# Altium integrated library WE-SPC_rev16a.intlib: 53 symbols
Pins are listed as number, name and electrical type; pins without a type are passive.

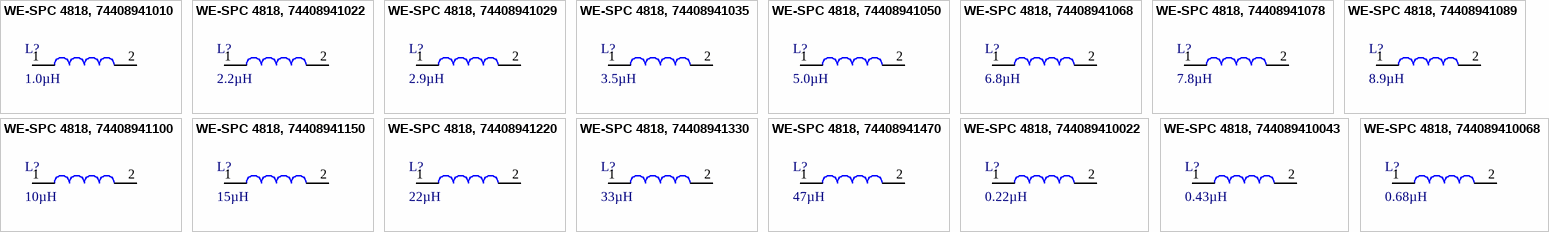
[diagram p0: symbols WE-SPC 4818, 74408941010 to WE-SPC 4818, 744089410068]

## WE-SPC 4818, 74408941010
designator L?, comment 1.0µH
WE-SPC SMD Shielded Power Inductor, L= 1.0µH; partNo: 74408941010; Manufacturer: Wurth Elektronik; Inductance: 1.0µH; ComponentLink1Description: Manufacturer; ComponentLink1URL: http://www.we-online.de; Created by: Baojun Chen; Created Date: Jan.2016; ComponentLink2Description: Datasheet; ComponentLink2URL: http://katalog.we-online.de/pbs/datasheet/74408941010.pdf
footprint WE-SPC_4818
pins: 1, 2

## WE-SPC 4818, 74408941022
designator L?, comment 2.2µH
WE-SPC SMD Shielded Power Inductor, L= 2.2µH; partNo: 74408941022; Manufacturer: Wurth Elektronik; Inductance: 2.2µH; ComponentLink1Description: Manufacturer; ComponentLink1URL: http://www.we-online.de; Created by: Baojun Chen; Created Date: Jan.2016; ComponentLink2Description: Datasheet; ComponentLink2URL: http://katalog.we-online.de/pbs/datasheet/74408941022.pdf
footprint WE-SPC_4818
pins: 1, 2

## WE-SPC 4818, 74408941029
designator L?, comment 2.9µH
WE-SPC SMD Shielded Power Inductor, L= 2.9µH; partNo: 74408941029; Manufacturer: Wurth Elektronik; Inductance: 2.9µH; ComponentLink1Description: Manufacturer; ComponentLink1URL: http://www.we-online.de; Created by: Baojun Chen; Created Date: Jan.2016; ComponentLink2Description: Datasheet; ComponentLink2URL: http://katalog.we-online.de/pbs/datasheet/74408941029.pdf
footprint WE-SPC_4818
pins: 1, 2

## WE-SPC 4818, 74408941035
designator L?, comment 3.5µH
WE-SPC SMD Shielded Power Inductor, L= 3.5µH; partNo: 74408941035; Manufacturer: Wurth Elektronik; Inductance: 3.5µH; ComponentLink1Description: Manufacturer; ComponentLink1URL: http://www.we-online.de; Created by: Baojun Chen; Created Date: Jan.2016; ComponentLink2Description: Datasheet; ComponentLink2URL: http://katalog.we-online.de/pbs/datasheet/74408941035.pdf
footprint WE-SPC_4818
pins: 1, 2

## WE-SPC 4818, 74408941050
designator L?, comment 5.0µH
WE-SPC SMD Shielded Power Inductor, L= 5.0µH; partNo: 74408941050; Manufacturer: Wurth Elektronik; Inductance: 5.0µH; ComponentLink1Description: Manufacturer; ComponentLink1URL: http://www.we-online.de; Created by: Baojun Chen; Created Date: Jan.2016; ComponentLink2Description: Datasheet; ComponentLink2URL: http://katalog.we-online.de/pbs/datasheet/74408941050.pdf
footprint WE-SPC_4818
pins: 1, 2

## WE-SPC 4818, 74408941068
designator L?, comment 6.8µH
WE-SPC SMD Shielded Power Inductor, L= 6.8µH; partNo: 74408941068; Manufacturer: Wurth Elektronik; Inductance: 6.8µH; ComponentLink1Description: Manufacturer; ComponentLink1URL: http://www.we-online.de; Created by: Baojun Chen; Created Date: Jan.2016; ComponentLink2Description: Datasheet; ComponentLink2URL: http://katalog.we-online.de/pbs/datasheet/74408941068.pdf
footprint WE-SPC_4818
pins: 1, 2

## WE-SPC 4818, 74408941078
designator L?, comment 7.8µH
WE-SPC SMD Shielded Power Inductor, L= 7.8µH; partNo: 74408941078; Manufacturer: Wurth Elektronik; Inductance: 7.8µH; ComponentLink1Description: Manufacturer; ComponentLink1URL: http://www.we-online.de; Created by: Baojun Chen; Created Date: Jan.2016; ComponentLink2Description: Datasheet; ComponentLink2URL: http://katalog.we-online.de/pbs/datasheet/74408941078.pdf
footprint WE-SPC_4818
pins: 1, 2

## WE-SPC 4818, 74408941089
designator L?, comment 8.9µH
WE-SPC SMD Shielded Power Inductor, L= 8.9µH; partNo: 74408941089; Manufacturer: Wurth Elektronik; Inductance: 8.9µH; ComponentLink1Description: Manufacturer; ComponentLink1URL: http://www.we-online.de; Created by: Baojun Chen; Created Date: Jan.2016; ComponentLink2Description: Datasheet; ComponentLink2URL: http://katalog.we-online.de/pbs/datasheet/74408941089.pdf
footprint WE-SPC_4818
pins: 1, 2

## WE-SPC 4818, 74408941100
designator L?, comment 10µH
WE-SPC SMD Shielded Power Inductor, L= 10µH; partNo: 74408941100; Manufacturer: Wurth Elektronik; Inductance: 10µH; ComponentLink1Description: Manufacturer; ComponentLink1URL: http://www.we-online.de; Created by: Baojun Chen; Created Date: Jan.2016; ComponentLink2Description: Datasheet; ComponentLink2URL: http://katalog.we-online.de/pbs/datasheet/74408941100.pdf
footprint WE-SPC_4818
pins: 1, 2

## WE-SPC 4818, 74408941150
designator L?, comment 15µH
WE-SPC SMD Shielded Power Inductor, L= 15µH; partNo: 74408941150; Manufacturer: Wurth Elektronik; Inductance: 15µH; ComponentLink1Description: Manufacturer; ComponentLink1URL: http://www.we-online.de; Created by: Baojun Chen; Created Date: Jan.2016; ComponentLink2Description: Datasheet; ComponentLink2URL: http://katalog.we-online.de/pbs/datasheet/74408941150.pdf
footprint WE-SPC_4818
pins: 1, 2

## WE-SPC 4818, 74408941220
designator L?, comment 22µH
WE-SPC SMD Shielded Power Inductor, L= 22µH; partNo: 74408941220; Manufacturer: Wurth Elektronik; Inductance: 22µH; ComponentLink1Description: Manufacturer; ComponentLink1URL: http://www.we-online.de; Created by: Baojun Chen; Created Date: Jan.2016; ComponentLink2Description: Datasheet; ComponentLink2URL: http://katalog.we-online.de/pbs/datasheet/74408941220.pdf
footprint WE-SPC_4818
pins: 1, 2

## WE-SPC 4818, 74408941330
designator L?, comment 33µH
WE-SPC SMD Shielded Power Inductor, L= 33µH; partNo: 74408941330; Manufacturer: Wurth Elektronik; Inductance: 33µH; ComponentLink1Description: Manufacturer; ComponentLink1URL: http://www.we-online.de; Created by: Baojun Chen; Created Date: Jan.2016; ComponentLink2Description: Datasheet; ComponentLink2URL: http://katalog.we-online.de/pbs/datasheet/74408941330.pdf
footprint WE-SPC_4818
pins: 1, 2

## WE-SPC 4818, 74408941470
designator L?, comment 47µH
WE-SPC SMD Shielded Power Inductor, L= 47µH; partNo: 74408941470; Manufacturer: Wurth Elektronik; Inductance: 47µH; ComponentLink1Description: Manufacturer; ComponentLink1URL: http://www.we-online.de; Created by: Baojun Chen; Created Date: Jan.2016; ComponentLink2Description: Datasheet; ComponentLink2URL: http://katalog.we-online.de/pbs/datasheet/74408941470.pdf
footprint WE-SPC_4818
pins: 1, 2

## WE-SPC 4818, 744089410022
designator L?, comment 0.22µH
WE-SPC SMD Shielded Power Inductor, L= 0.22µH; partNo: 744089410022; Manufacturer: Wurth Elektronik; Inductance: 0.22µH; ComponentLink1Description: Manufacturer; ComponentLink1URL: http://www.we-online.de; Created by: Baojun Chen; Created Date: Jan.2016; ComponentLink2Description: Datasheet; ComponentLink2URL: http://katalog.we-online.de/pbs/datasheet/744089410022.pdf
footprint WE-SPC_4818
pins: 1, 2

## WE-SPC 4818, 744089410043
designator L?, comment 0.43µH
WE-SPC SMD Shielded Power Inductor, L= 0.43µH; partNo: 744089410043; Manufacturer: Wurth Elektronik; Inductance: 0.43µH; ComponentLink1Description: Manufacturer; ComponentLink1URL: http://www.we-online.de; Created by: Baojun Chen; Created Date: Jan.2016; ComponentLink2Description: Datasheet; ComponentLink2URL: http://katalog.we-online.de/pbs/datasheet/744089410043.pdf
footprint WE-SPC_4818
pins: 1, 2

## WE-SPC 4818, 744089410068
designator L?, comment 0.68µH
WE-SPC SMD Shielded Power Inductor, L= 0.68µH; partNo: 744089410068; Manufacturer: Wurth Elektronik; Inductance: 0.68µH; ComponentLink1Description: Manufacturer; ComponentLink1URL: http://www.we-online.de; Created by: Baojun Chen; Created Date: Jan.2016; ComponentLink2Description: Datasheet; ComponentLink2URL: http://katalog.we-online.de/pbs/datasheet/744089410068.pdf
footprint WE-SPC_4818
pins: 1, 2


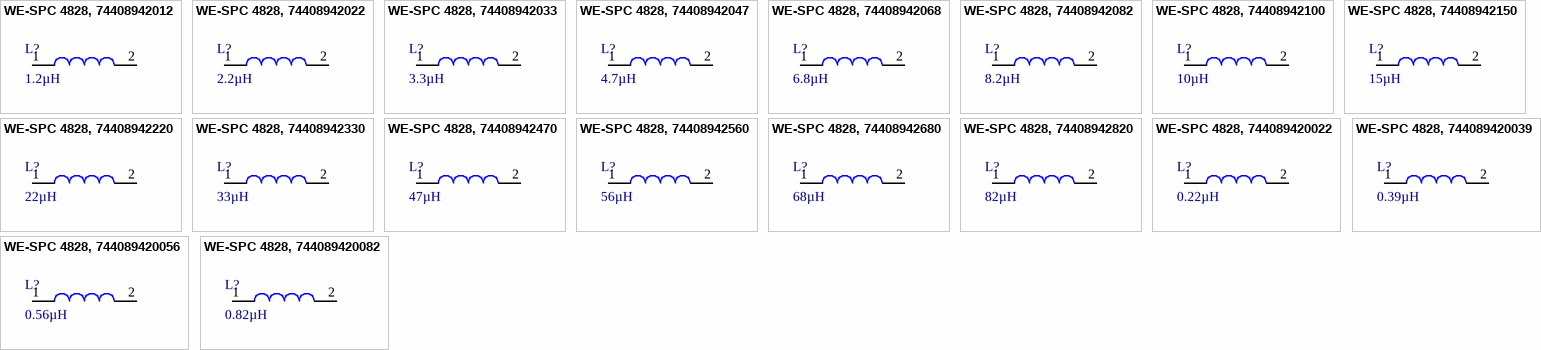
[diagram p1: symbols WE-SPC 4828, 74408942012 to WE-SPC 4828, 744089420082]

## WE-SPC 4828, 74408942012
designator L?, comment 1.2µH
WE-SPC SMD Shielded Power Inductor, L= 1.2µH; partNo: 74408942012; Manufacturer: Wurth Elektronik; Inductance: 1.2µH; ComponentLink1Description: Manufacturer; ComponentLink1URL: http://www.we-online.de; Created by: Baojun Chen; Created Date: Jan.2016; ComponentLink2Description: Datasheet; ComponentLink2URL: http://katalog.we-online.de/pbs/datasheet/74408942012.pdf
footprint WE-SPC_4828
pins: 1, 2

## WE-SPC 4828, 74408942022
designator L?, comment 2.2µH
WE-SPC SMD Shielded Power Inductor, L= 2.2µH; partNo: 74408942022; Manufacturer: Wurth Elektronik; Inductance: 2.2µH; ComponentLink1Description: Manufacturer; ComponentLink1URL: http://www.we-online.de; Created by: Baojun Chen; Created Date: Jan.2016; ComponentLink2Description: Datasheet; ComponentLink2URL: http://katalog.we-online.de/pbs/datasheet/74408942022.pdf
footprint WE-SPC_4828
pins: 1, 2

## WE-SPC 4828, 74408942033
designator L?, comment 3.3µH
WE-SPC SMD Shielded Power Inductor, L= 3.3µH; partNo: 74408942033; Manufacturer: Wurth Elektronik; Inductance: 3.3µH; ComponentLink1Description: Manufacturer; ComponentLink1URL: http://www.we-online.de; Created by: Baojun Chen; Created Date: Jan.2016; ComponentLink2Description: Datasheet; ComponentLink2URL: http://katalog.we-online.de/pbs/datasheet/74408942033.pdf
footprint WE-SPC_4828
pins: 1, 2

## WE-SPC 4828, 74408942047
designator L?, comment 4.7µH
WE-SPC SMD Shielded Power Inductor, L= 4.7µH; partNo: 74408942047; Manufacturer: Wurth Elektronik; Inductance: 4.7µH; ComponentLink1Description: Manufacturer; ComponentLink1URL: http://www.we-online.de; Created by: Baojun Chen; Created Date: Jan.2016; ComponentLink2Description: Datasheet; ComponentLink2URL: http://katalog.we-online.de/pbs/datasheet/74408942047.pdf
footprint WE-SPC_4828
pins: 1, 2

## WE-SPC 4828, 74408942068
designator L?, comment 6.8µH
WE-SPC SMD Shielded Power Inductor, L= 6.8µH; partNo: 74408942068; Manufacturer: Wurth Elektronik; Inductance: 6.8µH; ComponentLink1Description: Manufacturer; ComponentLink1URL: http://www.we-online.de; Created by: Baojun Chen; Created Date: Jan.2016; ComponentLink2Description: Datasheet; ComponentLink2URL: http://katalog.we-online.de/pbs/datasheet/74408942068.pdf
footprint WE-SPC_4828
pins: 1, 2

## WE-SPC 4828, 74408942082
designator L?, comment 8.2µH
WE-SPC SMD Shielded Power Inductor, L= 8.2µH; partNo: 74408942082; Manufacturer: Wurth Elektronik; Inductance: 8.2µH; ComponentLink1Description: Manufacturer; ComponentLink1URL: http://www.we-online.de; Created by: Baojun Chen; Created Date: Jan.2016; ComponentLink2Description: Datasheet; ComponentLink2URL: http://katalog.we-online.de/pbs/datasheet/74408942082.pdf
footprint WE-SPC_4828
pins: 1, 2

## WE-SPC 4828, 74408942100
designator L?, comment 10µH
WE-SPC SMD Shielded Power Inductor, L= 10µH; partNo: 74408942100; Manufacturer: Wurth Elektronik; Inductance: 10µH; ComponentLink1Description: Manufacturer; ComponentLink1URL: http://www.we-online.de; Created by: Baojun Chen; Created Date: Jan.2016; ComponentLink2Description: Datasheet; ComponentLink2URL: http://katalog.we-online.de/pbs/datasheet/74408942100.pdf
footprint WE-SPC_4828
pins: 1, 2

## WE-SPC 4828, 74408942150
designator L?, comment 15µH
WE-SPC SMD Shielded Power Inductor, L= 15µH; partNo: 74408942150; Manufacturer: Wurth Elektronik; Inductance: 15µH; ComponentLink1Description: Manufacturer; ComponentLink1URL: http://www.we-online.de; Created by: Baojun Chen; Created Date: Jan.2016; ComponentLink2Description: Datasheet; ComponentLink2URL: http://katalog.we-online.de/pbs/datasheet/74408942150.pdf
footprint WE-SPC_4828
pins: 1, 2

## WE-SPC 4828, 74408942220
designator L?, comment 22µH
WE-SPC SMD Shielded Power Inductor, L= 22µH; partNo: 74408942220; Manufacturer: Wurth Elektronik; Inductance: 22µH; ComponentLink1Description: Manufacturer; ComponentLink1URL: http://www.we-online.de; Created by: Baojun Chen; Created Date: Jan.2016; ComponentLink2Description: Datasheet; ComponentLink2URL: http://katalog.we-online.de/pbs/datasheet/74408942220.pdf
footprint WE-SPC_4828
pins: 1, 2

## WE-SPC 4828, 74408942330
designator L?, comment 33µH
WE-SPC SMD Shielded Power Inductor, L= 33µH; partNo: 74408942330; Manufacturer: Wurth Elektronik; Inductance: 33µH; ComponentLink1Description: Manufacturer; ComponentLink1URL: http://www.we-online.de; Created by: Baojun Chen; Created Date: Jan.2016; ComponentLink2Description: Datasheet; ComponentLink2URL: http://katalog.we-online.de/pbs/datasheet/74408942330.pdf
footprint WE-SPC_4828
pins: 1, 2

## WE-SPC 4828, 74408942470
designator L?, comment 47µH
WE-SPC SMD Shielded Power Inductor, L= 47µH; partNo: 74408942470; Manufacturer: Wurth Elektronik; Inductance: 47µH; ComponentLink1Description: Manufacturer; ComponentLink1URL: http://www.we-online.de; Created by: Baojun Chen; Created Date: Jan.2016; ComponentLink2Description: Datasheet; ComponentLink2URL: http://katalog.we-online.de/pbs/datasheet/74408942470.pdf
footprint WE-SPC_4828
pins: 1, 2

## WE-SPC 4828, 74408942560
designator L?, comment 56µH
WE-SPC SMD Shielded Power Inductor, L= 56µH; partNo: 74408942560; Manufacturer: Wurth Elektronik; Inductance: 56µH; ComponentLink1Description: Manufacturer; ComponentLink1URL: http://www.we-online.de; Created by: Baojun Chen; Created Date: Jan.2016; ComponentLink2Description: Datasheet; ComponentLink2URL: http://katalog.we-online.de/pbs/datasheet/74408942560.pdf
footprint WE-SPC_4828
pins: 1, 2

## WE-SPC 4828, 74408942680
designator L?, comment 68µH
WE-SPC SMD Shielded Power Inductor, L= 68µH; partNo: 74408942680; Manufacturer: Wurth Elektronik; Inductance: 68µH; ComponentLink1Description: Manufacturer; ComponentLink1URL: http://www.we-online.de; Created by: Baojun Chen; Created Date: Jan.2016; ComponentLink2Description: Datasheet; ComponentLink2URL: http://katalog.we-online.de/pbs/datasheet/74408942680.pdf
footprint WE-SPC_4828
pins: 1, 2

## WE-SPC 4828, 74408942820
designator L?, comment 82µH
WE-SPC SMD Shielded Power Inductor, L= 82µH; partNo: 74408942820; Manufacturer: Wurth Elektronik; Inductance: 82µH; ComponentLink1Description: Manufacturer; ComponentLink1URL: http://www.we-online.de; Created by: Baojun Chen; Created Date: Jan.2016; ComponentLink2Description: Datasheet; ComponentLink2URL: http://katalog.we-online.de/pbs/datasheet/74408942820.pdf
footprint WE-SPC_4828
pins: 1, 2

## WE-SPC 4828, 744089420022
designator L?, comment 0.22µH
WE-SPC SMD Shielded Power Inductor, L= 0.22µH; partNo: 744089420022; Manufacturer: Wurth Elektronik; Inductance: 0.22µH; ComponentLink1Description: Manufacturer; ComponentLink1URL: http://www.we-online.de; Created by: Baojun Chen; Created Date: Jan.2016; ComponentLink2Description: Datasheet; ComponentLink2URL: http://katalog.we-online.de/pbs/datasheet/744089420022.pdf
footprint WE-SPC_4828
pins: 1, 2

## WE-SPC 4828, 744089420039
designator L?, comment 0.39µH
WE-SPC SMD Shielded Power Inductor, L= 0.39µH; partNo: 744089420039; Manufacturer: Wurth Elektronik; Inductance: 0.39µH; ComponentLink1Description: Manufacturer; ComponentLink1URL: http://www.we-online.de; Created by: Baojun Chen; Created Date: Jan.2016; ComponentLink2Description: Datasheet; ComponentLink2URL: http://katalog.we-online.de/pbs/datasheet/744089420039.pdf
footprint WE-SPC_4828
pins: 1, 2

## WE-SPC 4828, 744089420056
designator L?, comment 0.56µH
WE-SPC SMD Shielded Power Inductor, L= 0.56µH; partNo: 744089420056; Manufacturer: Wurth Elektronik; Inductance: 0.56µH; ComponentLink1Description: Manufacturer; ComponentLink1URL: http://www.we-online.de; Created by: Baojun Chen; Created Date: Jan.2016; ComponentLink2Description: Datasheet; ComponentLink2URL: http://katalog.we-online.de/pbs/datasheet/744089420056.pdf
footprint WE-SPC_4828
pins: 1, 2

## WE-SPC 4828, 744089420082
designator L?, comment 0.82µH
WE-SPC SMD Shielded Power Inductor, L= 0.82µH; partNo: 744089420082; Manufacturer: Wurth Elektronik; Inductance: 0.82µH; ComponentLink1Description: Manufacturer; ComponentLink1URL: http://www.we-online.de; Created by: Baojun Chen; Created Date: Jan.2016; ComponentLink2Description: Datasheet; ComponentLink2URL: http://katalog.we-online.de/pbs/datasheet/744089420082.pdf
footprint WE-SPC_4828
pins: 1, 2


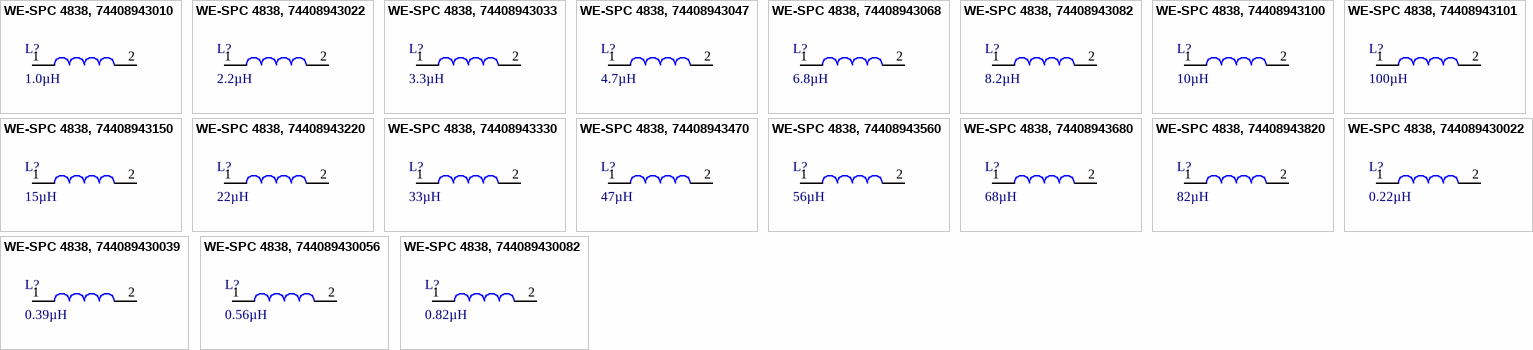
[diagram p2: symbols WE-SPC 4838, 74408943010 to WE-SPC 4838, 744089430082]

## WE-SPC 4838, 74408943010
designator L?, comment 1.0µH
WE-SPC SMD Shielded Power Inductor, L= 1.0µH; partNo: 74408943010; Manufacturer: Wurth Elektronik; Inductance: 1.0µH; ComponentLink1Description: Manufacturer; ComponentLink1URL: http://www.we-online.de; Created by: Baojun Chen; Created Date: Jan.2016; ComponentLink2Description: Datasheet; ComponentLink2URL: http://katalog.we-online.de/pbs/datasheet/74408943010.pdf
footprint WE-SPC_4838
pins: 1, 2

## WE-SPC 4838, 74408943022
designator L?, comment 2.2µH
WE-SPC SMD Shielded Power Inductor, L= 2.2µH; partNo: 74408943022; Manufacturer: Wurth Elektronik; Inductance: 2.2µH; ComponentLink1Description: Manufacturer; ComponentLink1URL: http://www.we-online.de; Created by: Baojun Chen; Created Date: Jan.2016; ComponentLink2Description: Datasheet; ComponentLink2URL: http://katalog.we-online.de/pbs/datasheet/74408943022.pdf
footprint WE-SPC_4838
pins: 1, 2

## WE-SPC 4838, 74408943033
designator L?, comment 3.3µH
WE-SPC SMD Shielded Power Inductor, L= 3.3µH; partNo: 74408943033; Manufacturer: Wurth Elektronik; Inductance: 3.3µH; ComponentLink1Description: Manufacturer; ComponentLink1URL: http://www.we-online.de; Created by: Baojun Chen; Created Date: Jan.2016; ComponentLink2Description: Datasheet; ComponentLink2URL: http://katalog.we-online.de/pbs/datasheet/74408943033.pdf
footprint WE-SPC_4838
pins: 1, 2

## WE-SPC 4838, 74408943047
designator L?, comment 4.7µH
WE-SPC SMD Shielded Power Inductor, L= 4.7µH; partNo: 74408943047; Manufacturer: Wurth Elektronik; Inductance: 4.7µH; ComponentLink1Description: Manufacturer; ComponentLink1URL: http://www.we-online.de; Created by: Baojun Chen; Created Date: Jan.2016; ComponentLink2Description: Datasheet; ComponentLink2URL: http://katalog.we-online.de/pbs/datasheet/74408943047.pdf
footprint WE-SPC_4838
pins: 1, 2

## WE-SPC 4838, 74408943068
designator L?, comment 6.8µH
WE-SPC SMD Shielded Power Inductor, L= 6.8µH; partNo: 74408943068; Manufacturer: Wurth Elektronik; Inductance: 6.8µH; ComponentLink1Description: Manufacturer; ComponentLink1URL: http://www.we-online.de; Created by: Baojun Chen; Created Date: Jan.2016; ComponentLink2Description: Datasheet; ComponentLink2URL: http://katalog.we-online.de/pbs/datasheet/74408943068.pdf
footprint WE-SPC_4838
pins: 1, 2

## WE-SPC 4838, 74408943082
designator L?, comment 8.2µH
WE-SPC SMD Shielded Power Inductor, L= 8.2µH; partNo: 74408943082; Manufacturer: Wurth Elektronik; Inductance: 8.2µH; ComponentLink1Description: Manufacturer; ComponentLink1URL: http://www.we-online.de; Created by: Baojun Chen; Created Date: Jan.2016; ComponentLink2Description: Datasheet; ComponentLink2URL: http://katalog.we-online.de/pbs/datasheet/74408943082.pdf
footprint WE-SPC_4838
pins: 1, 2

## WE-SPC 4838, 74408943100
designator L?, comment 10µH
WE-SPC SMD Shielded Power Inductor, L= 10µH; partNo: 74408943100; Manufacturer: Wurth Elektronik; Inductance: 10µH; ComponentLink1Description: Manufacturer; ComponentLink1URL: http://www.we-online.de; Created by: Baojun Chen; Created Date: Jan.2016; ComponentLink2Description: Datasheet; ComponentLink2URL: http://katalog.we-online.de/pbs/datasheet/74408943100.pdf
footprint WE-SPC_4838
pins: 1, 2

## WE-SPC 4838, 74408943101
designator L?, comment 100µH
WE-SPC SMD Shielded Power Inductor, L= 100µH; partNo: 74408943101; Manufacturer: Wurth Elektronik; Inductance: 100µH; ComponentLink1Description: Manufacturer; ComponentLink1URL: http://www.we-online.de; Created by: Baojun Chen; Created Date: Jan.2016; ComponentLink2Description: Datasheet; ComponentLink2URL: http://katalog.we-online.de/pbs/datasheet/74408943101.pdf
footprint WE-SPC_4838
pins: 1, 2

## WE-SPC 4838, 74408943150
designator L?, comment 15µH
WE-SPC SMD Shielded Power Inductor, L= 15µH; partNo: 74408943150; Manufacturer: Wurth Elektronik; Inductance: 15µH; ComponentLink1Description: Manufacturer; ComponentLink1URL: http://www.we-online.de; Created by: Baojun Chen; Created Date: Jan.2016; ComponentLink2Description: Datasheet; ComponentLink2URL: http://katalog.we-online.de/pbs/datasheet/74408943150.pdf
footprint WE-SPC_4838
pins: 1, 2

## WE-SPC 4838, 74408943220
designator L?, comment 22µH
WE-SPC SMD Shielded Power Inductor, L= 22µH; partNo: 74408943220; Manufacturer: Wurth Elektronik; Inductance: 22µH; ComponentLink1Description: Manufacturer; ComponentLink1URL: http://www.we-online.de; Created by: Baojun Chen; Created Date: Jan.2016; ComponentLink2Description: Datasheet; ComponentLink2URL: http://katalog.we-online.de/pbs/datasheet/74408943220.pdf
footprint WE-SPC_4838
pins: 1, 2

## WE-SPC 4838, 74408943330
designator L?, comment 33µH
WE-SPC SMD Shielded Power Inductor, L= 33µH; partNo: 74408943330; Manufacturer: Wurth Elektronik; Inductance: 33µH; ComponentLink1Description: Manufacturer; ComponentLink1URL: http://www.we-online.de; Created by: Baojun Chen; Created Date: Jan.2016; ComponentLink2Description: Datasheet; ComponentLink2URL: http://katalog.we-online.de/pbs/datasheet/74408943330.pdf
footprint WE-SPC_4838
pins: 1, 2

## WE-SPC 4838, 74408943470
designator L?, comment 47µH
WE-SPC SMD Shielded Power Inductor, L= 47µH; partNo: 74408943470; Manufacturer: Wurth Elektronik; Inductance: 47µH; ComponentLink1Description: Manufacturer; ComponentLink1URL: http://www.we-online.de; Created by: Baojun Chen; Created Date: Jan.2016; ComponentLink2Description: Datasheet; ComponentLink2URL: http://katalog.we-online.de/pbs/datasheet/74408943470.pdf
footprint WE-SPC_4838
pins: 1, 2

## WE-SPC 4838, 74408943560
designator L?, comment 56µH
WE-SPC SMD Shielded Power Inductor, L= 56µH; partNo: 74408943560; Manufacturer: Wurth Elektronik; Inductance: 56µH; ComponentLink1Description: Manufacturer; ComponentLink1URL: http://www.we-online.de; Created by: Baojun Chen; Created Date: Jan.2016; ComponentLink2Description: Datasheet; ComponentLink2URL: http://katalog.we-online.de/pbs/datasheet/74408943560.pdf
footprint WE-SPC_4838
pins: 1, 2

## WE-SPC 4838, 74408943680
designator L?, comment 68µH
WE-SPC SMD Shielded Power Inductor, L= 68µH; partNo: 74408943680; Manufacturer: Wurth Elektronik; Inductance: 68µH; ComponentLink1Description: Manufacturer; ComponentLink1URL: http://www.we-online.de; Created by: Baojun Chen; Created Date: Jan.2016; ComponentLink2Description: Datasheet; ComponentLink2URL: http://katalog.we-online.de/pbs/datasheet/74408943680.pdf
footprint WE-SPC_4838
pins: 1, 2

## WE-SPC 4838, 74408943820
designator L?, comment 82µH
WE-SPC SMD Shielded Power Inductor, L= 82µH; partNo: 74408943820; Manufacturer: Wurth Elektronik; Inductance: 82µH; ComponentLink1Description: Manufacturer; ComponentLink1URL: http://www.we-online.de; Created by: Baojun Chen; Created Date: Jan.2016; ComponentLink2Description: Datasheet; ComponentLink2URL: http://katalog.we-online.de/pbs/datasheet/74408943820.pdf
footprint WE-SPC_4838
pins: 1, 2

## WE-SPC 4838, 744089430022
designator L?, comment 0.22µH
WE-SPC SMD Shielded Power Inductor, L= 0.22µH; partNo: 744089430022; Manufacturer: Wurth Elektronik; Inductance: 0.22µH; ComponentLink1Description: Manufacturer; ComponentLink1URL: http://www.we-online.de; Created by: Baojun Chen; Created Date: Jan.2016; ComponentLink2Description: Datasheet; ComponentLink2URL: http://katalog.we-online.de/pbs/datasheet/744089430022.pdf
footprint WE-SPC_4838
pins: 1, 2

## WE-SPC 4838, 744089430039
designator L?, comment 0.39µH
WE-SPC SMD Shielded Power Inductor, L= 0.39µH; partNo: 744089430039; Manufacturer: Wurth Elektronik; Inductance: 0.39µH; ComponentLink1Description: Manufacturer; ComponentLink1URL: http://www.we-online.de; Created by: Baojun Chen; Created Date: Jan.2016; ComponentLink2Description: Datasheet; ComponentLink2URL: http://katalog.we-online.de/pbs/datasheet/744089430039.pdf
footprint WE-SPC_4838
pins: 1, 2

## WE-SPC 4838, 744089430056
designator L?, comment 0.56µH
WE-SPC SMD Shielded Power Inductor, L= 0.56µH; partNo: 744089430056; Manufacturer: Wurth Elektronik; Inductance: 0.56µH; ComponentLink1Description: Manufacturer; ComponentLink1URL: http://www.we-online.de; Created by: Baojun Chen; Created Date: Jan.2016; ComponentLink2Description: Datasheet; ComponentLink2URL: http://katalog.we-online.de/pbs/datasheet/744089430056.pdf
footprint WE-SPC_4838
pins: 1, 2

## WE-SPC 4838, 744089430082
designator L?, comment 0.82µH
WE-SPC SMD Shielded Power Inductor, L= 0.82µH; partNo: 744089430082; Manufacturer: Wurth Elektronik; Inductance: 0.82µH; ComponentLink1Description: Manufacturer; ComponentLink1URL: http://www.we-online.de; Created by: Baojun Chen; Created Date: Jan.2016; ComponentLink2Description: Datasheet; ComponentLink2URL: http://katalog.we-online.de/pbs/datasheet/744089430082.pdf
footprint WE-SPC_4838
pins: 1, 2